# EAGLE library part XR-T5684P (library exar)
T1 LINE INTERFACE
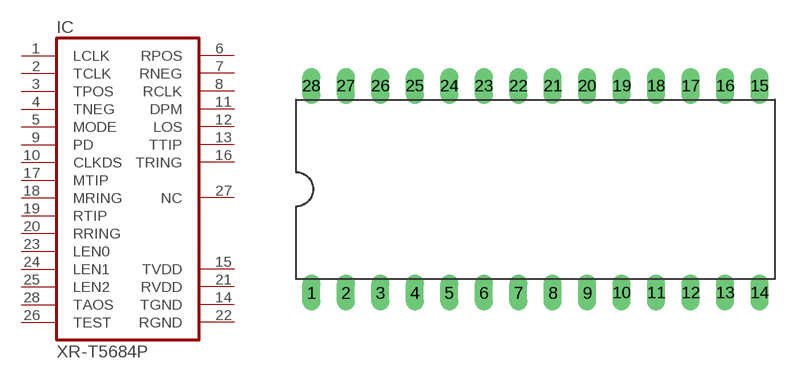
[diagram p23: symbol with the pads of DIL28-6; footprint DIL28-6]

Designator prefix IC

## XR-T5684P (OC_FARNELL: unknown; OC_NEWARK: unknown)  [DIL28-6]
1  LCLK  in
2  TCLK  in
3  TPOS  in
4  TNEG  in
5  MODE  in
6  RPOS  out
7  RNEG  out
8  RCLK  out
9  PD  in
10  CLKDS  in
11  DPM  out
12  LOS  out
13  TTIP  out
14  TGND  pwr
15  TVDD  pwr
16  TRING  out
17  MTIP  in
18  MRING  in
19  RTIP  in
20  RRING  in
21  RVDD  pwr
22  RGND  pwr
23  LEN0  in
24  LEN1  in
25  LEN2  in
26  TEST  in
27  NC  nc
28  TAOS  in

## Footprint DIL28-6 (pad centres in mm)
Dual In Line Package 0.6 inch
drill 0.813 long: 1 -16.51,-7.62; 2 -13.97,-7.62; 3 -11.43,-7.62; 4 -8.89,-7.62; 5 -6.35,-7.62; 6 -3.81,-7.62; 7 -1.27,-7.62; 8 1.27,-7.62; 9 3.81,-7.62; 10 6.35,-7.62; 11 8.89,-7.62; 12 11.43,-7.62; 13 13.97,-7.62; 14 16.51,-7.62; 15 16.51,7.62; 16 13.97,7.62; 17 11.43,7.62; 18 8.89,7.62; 19 6.35,7.62; 20 3.81,7.62; 21 1.27,7.62; 22 -1.27,7.62; 23 -3.81,7.62; 24 -6.35,7.62; 25 -8.89,7.62; 26 -11.43,7.62; 27 -13.97,7.62; 28 -16.51,7.62